# Altium schematic symbol library TCA9406DCUR.Schlib: 1 symbol
Pins are listed as number, name and electrical type; pins without a type are passive.

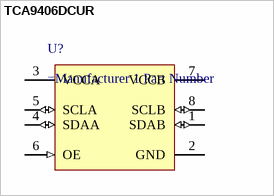
[diagram p0: symbol TCA9406DCUR]

## TCA9406DCUR
designator U?
Voltage Level Translator Bidirectional 1 Circuit 2 Channel 24Mbps 8-VSSOP
pins: 1 SDAB (io), 2 GND (power), 3 VCCA (power), 4 SDAA (io), 5 SCLA (io), 6 OE (in), 7 VCCB (power), 8 SCLB (io)